# Altium schematic symbol library CLOCK.SchLib: 3 symbols
Pins are listed as number, name and electrical type; pins without a type are passive.

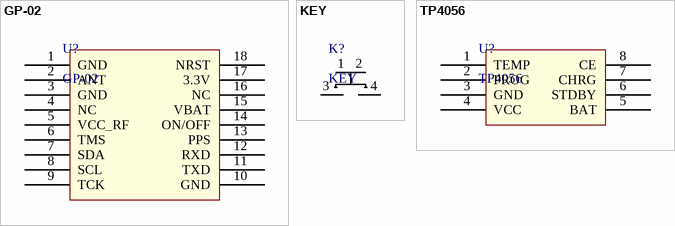
[diagram p0: symbols GP-02 to TP4056]

## GP-02
designator U?
footprint GP-02
pins: 1 GND, 2 ANT, 3 GND, 4 NC, 5 VCC_RF, 6 TMS, 7 SDA, 8 SCL, 9 TCK, 10 GND, 11 TXD, 12 RXD, 13 PPS, 14 ON/OFF, 15 VBAT, 16 NC, 17 3.3V, 18 NRST

## KEY
designator K?
footprint KEY
pins: 1, 2, 3, 4

## TP4056
designator U?
footprint SOP-8 (封装库来自淘宝卖家 ID：黄晶宝石)
pins: 1 TEMP, 2 PROG, 3 GND, 4 VCC, 5 BAT, 6 STDBY, 7 CHRG, 8 CE